# Altium integrated library USBLC6-2SC6Y.IntLib: 1 symbol
Pins are listed as number, name and electrical type; pins without a type are passive.

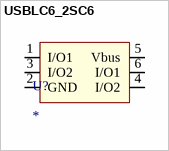
[diagram p0: symbol USBLC6_2SC6]

## USBLC6_2SC6
designator U?
ID: USBLC6-2SC6Y; PDF: http://www.st.com/st-web-ui/static/active/en/resource/technical/document/datasheet/DM00055262.pdf; BUY_LINK: http://www.digikey.com/product-detail/en/USBLC6-2SC6Y/497-11882-1-ND/2756523; PRICE: 1.18000
footprint SOT23-6
pins: 1 I/O1, 2 GND, 3 I/O2, 4 I/O2, 5 Vbus, 6 I/O1